# EAGLE library part AD5541 (library analog-devices)
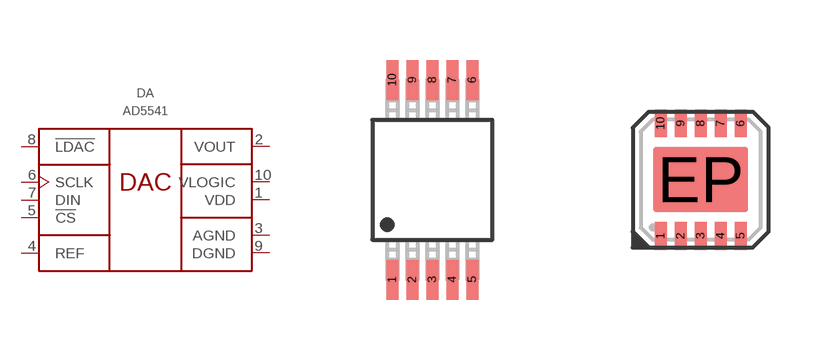
[diagram p16: symbol with the pads of MSOP10; footprints MSOP10, LFCSP-10]

Designator prefix DA

## AD5541ABRMZ  [MSOP10]
1  VDD  pwr
2  VOUT  out
3  AGND  pwr
4  REF  in
5  !CS  in
6  SCLK  in
7  DIN  in
8  !LDAC  in
9  DGND  pwr
10  VLOGIC  pwr

## AD5541AARMZ  [MSOP10]
Pads as for MSOP10

## AD5541ABRMZ-REEL7  [MSOP10]
Pads as for MSOP10

## AD5541AARMZ-REEL7  [MSOP10]
Pads as for MSOP10

## AD5541AACPZ-REEL7  [LFCSP-10]
Pads as for MSOP10

## AD5541ABCPZ-REEL7  [LFCSP-10]
Pads as for MSOP10

## AD5541ABCPZ-500RL7  [LFCSP-10]
Pads as for MSOP10

## Footprint MSOP10 (pad centres in mm)
smd 0.3 x 1: 1 -2.5,-1.5; 2 -2,-1.5; 3 -1.5,-1.5; 4 -1,-1.5; 5 -0.5,-1.5; 6 -0.5,3.5; 7 -1,3.5; 8 -1.5,3.5; 9 -2,3.5; 10 -2.5,3.5

## Footprint LFCSP-10 (pad centres in mm)
smd 0.3 x 0.7: 1 -1,-1.41; 2 -0.5,-1.41; 3 0,-1.41; 4 0.5,-1.41; 5 1,-1.41; 6 1,1.41; 7 0.5,1.41; 8 0,1.41; 9 -0.5,1.41; 10 -1,1.41
smd 2.38 x 1.64: EP 0,0